# Altium schematic symbol library 750813390.SchLib: 1 symbol
Pins are listed as number, name and electrical type; pins without a type are passive.

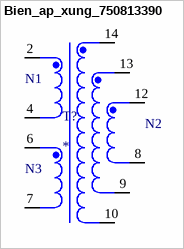
[diagram p0: symbol Bien_ap_xung_750813390]

## Bien_ap_xung_750813390
designator T?
TRANSFORMER FLYBACK LT3799 100UH 10%; Turns Ratio: 1: 1; Isolation Voltage: 4.5kV; Product Range: WE-FB 75081 Series; Inductance: 100ÂµH; DC Resistance: 0.15ohm; ET Constant: -; SVHC: No SVHC (15-Jan-2019); Output Voltage: 90V; MF: WÃ¼rth Elektronik; MP: 750813390; SnapEDA_Link: https://www.snapeda.com/parts/750813390/W%25C3%25BCrth+Elektronik+Midcom/view-part/?ref=snap; Package: None; Value: *; Check_prices: https://www.snapeda.com/parts/750813390/W%25C3%25BCrth+Elektronik+Midcom/view-part/?ref=eda
footprint WE-OLLT_ETD34_L39.6W43.18H30.48_PAD1.6
pins: 2, 4, 6, 7, 8, 9, 10, 12, 13, 14
text: N1; N2; N3